# EAGLE library part ADC08B200_PFB_48 (library ADC08B200_PFB_48)
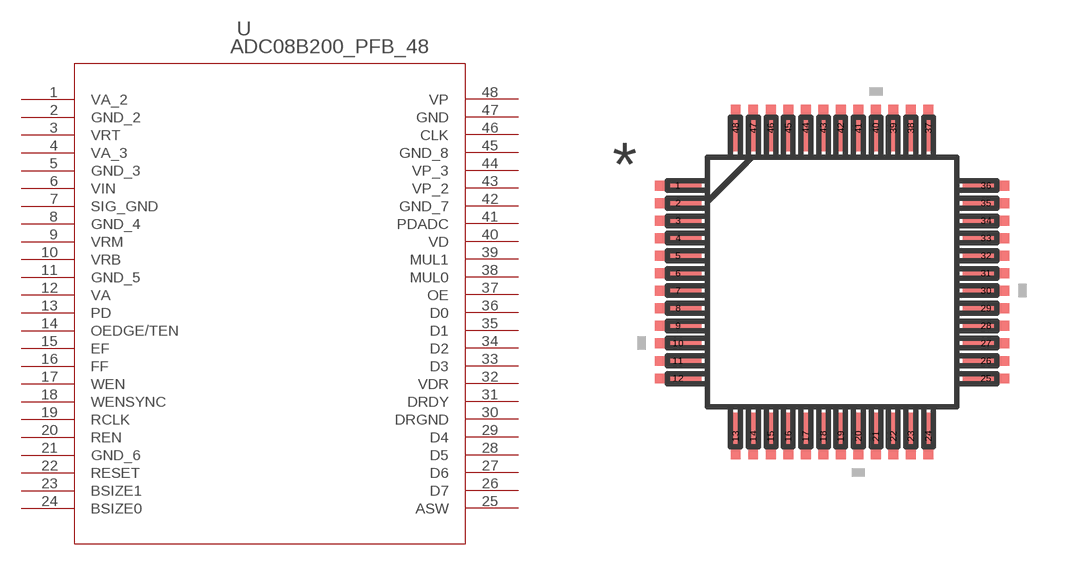
[diagram p0: symbol with the pads of VBC48A; footprint VBC48A]

Designator prefix -

## ADC08B200_PFB_48 (MANUFACTURER_PART_NUMBER: adc08b200civsnopb; VENDOR: National)  [VBC48A]
1  VA_2  pwr
2  GND_2  pwr
3  VRT  in
4  VA_3  pwr
5  GND_3  pwr
6  VIN  in
7  SIG_GND  pwr
8  GND_4  pwr
9  VRM  in
10  VRB  in
11  GND_5  pwr
12  VA  pwr
13  PD  in
14  OEDGE/TEN  in
15  EF  out
16  FF  out
17  WEN  in
18  WENSYNC  out
19  RCLK  in
20  REN  in
21  GND_6  pwr
22  RESET  in
23  BSIZE1  in
24  BSIZE0  in
25  ASW  in
26  D7  out
27  D6  out
28  D5  out
29  D4  out
30  DRGND  pwr
31  DRDY  out
32  VDR  pwr
33  D3  out
34  D2  out
35  D1  out
36  D0  out
37  OE  in
38  MUL0  in
39  MUL1  in
40  VD  pwr
41  PDADC  in
42  GND_7  pwr
43  VP_2  pwr
44  VP_3  pwr
45  GND_8  pwr
46  CLK  in
47  GND  pwr
48  VP  pwr

## Footprint VBC48A (pad centres in mm)
smd 1.321 x 0.279: 1 -4.394,2.75; 2 -4.394,2.25; 3 -4.394,1.75; 4 -4.394,1.25; 5 -4.394,0.75; 6 -4.394,0.25; 7 -4.394,-0.25; 8 -4.394,-0.75; 9 -4.394,-1.25; 10 -4.394,-1.75; 11 -4.394,-2.25; 12 -4.394,-2.75; 25 4.394,-2.75; 26 4.394,-2.25; 27 4.394,-1.75; 28 4.394,-1.25; 29 4.394,-0.75; 30 4.394,-0.25; 31 4.394,0.25; 32 4.394,0.75; 33 4.394,1.25; 34 4.394,1.75; 35 4.394,2.25; 36 4.394,2.75
smd 0.279 x 1.321: 13 -2.75,-4.394; 14 -2.25,-4.394; 15 -1.75,-4.394; 16 -1.25,-4.394; 17 -0.75,-4.394; 18 -0.25,-4.394; 19 0.25,-4.394; 20 0.75,-4.394; 21 1.25,-4.394; 22 1.75,-4.394; 23 2.25,-4.394; 24 2.75,-4.394; 37 2.75,4.394; 38 2.25,4.394; 39 1.75,4.394; 40 1.25,4.394; 41 0.75,4.394; 42 0.25,4.394; 43 -0.25,4.394; 44 -0.75,4.394; 45 -1.25,4.394; 46 -1.75,4.394; 47 -2.25,4.394; 48 -2.75,4.394